# EAGLE library part CNCTECH-3020-10-0300-00-HEADER (library ClintonLib)
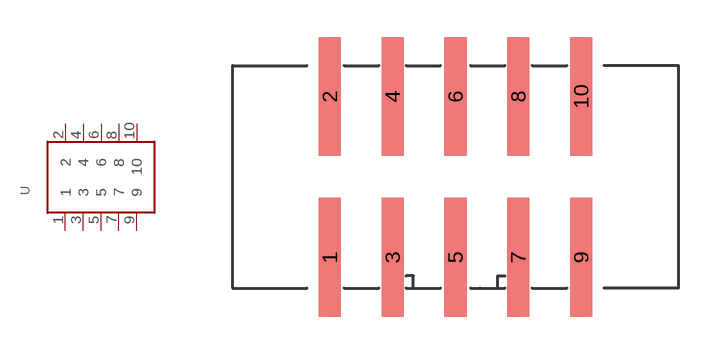
[diagram p6: symbol with the pads of CNCTECH-3020-10-0300-00-HEADER; footprint CNCTECH-3020-10-0300-00-HEADER]

Designator prefix -

## CNCTECH-3020-10-0300-00-HEADER  [CNCTECH-3020-10-0300-00-HEADER]
1  1
2  2
3  3
4  4
5  5
6  6
7  7
8  8
9  9
10  10

## Footprint CNCTECH-3020-10-0300-00-HEADER (pad centres in mm)
Surface Mount .1" Header
smd 0.89 x 4.8: 1 -5.08,-3.25; 2 -5.08,3.25; 3 -2.54,-3.25; 4 -2.54,3.25; 5 0,-3.25; 6 0,3.25; 7 2.54,-3.25; 8 2.54,3.25; 9 5.08,-3.25; 10 5.08,3.25